# Altium schematic symbol library AD5754BREZ.SchLib: 1 symbol
Pins are listed as number, name and electrical type; pins without a type are passive.

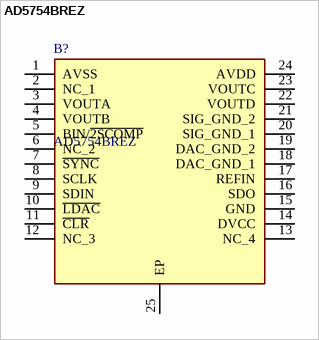
[diagram p0: symbol AD5754BREZ]

## AD5754BREZ
designator B?
4-channel 16-bit Serial DAC, 100ksps; Manufacturer_Name: Analog Devices; Geometry.Height: 1.2mm; Manufacturer_Part_Number: AD5754BREZ; Mouser Part Number: 584-AD5754BREZ; Mouser Price/Stock: https://www.mouser.co.uk/ProductDetail/Analog-Devices/AD5754BREZ?qs=NmRFExCfTkE9WVZYrblgWQ%3D%3D; Arrow Part Number: AD5754BREZ; Arrow Price/Stock: https://www.arrow.com/en/products/ad5754brez/analog-devices?utm_currency=USD&region=nac; Datasheet Link: https://datasheet.datasheetarchive.com/originals/distributors/Datasheets-SFU1/DSASFU10003180.pdf
footprint SOP65P640X120-25N
pins: 1 AVSS, 2 NC_1, 3 VOUTA, 4 VOUTB, 5 BIN/~{2SCOMP}, 6 NC_2, 7 ~{SYNC}, 8 SCLK, 9 SDIN, 10 ~{LDAC}, 11 ~{CLR}, 12 NC_3, 13 NC_4, 14 DVCC, 15 GND, 16 SDO, 17 REFIN, 18 DAC_GND_1, 19 DAC_GND_2, 20 SIG_GND_1, 21 SIG_GND_2, 22 VOUTD, 23 VOUTC, 24 AVDD, 25 EP